# EAGLE library part MAX14840 (library graftel-internal-ic)
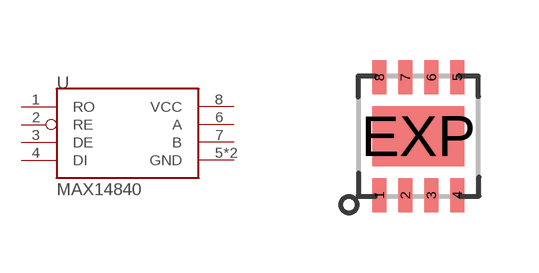
[diagram p29: symbol with the pads of TDFN-8; footprint TDFN-8]

Designator prefix U

## MAX14840  [TDFN-8]
1  RO
2  RE
3  DE
4  DI
5  GND
6  A
7  B
8  VCC
EXP  GND

## Footprint TDFN-8 (pad centres in mm)
smd 0.35 x 0.85: 1 -0.975,-1.475; 2 -0.325,-1.475; 3 0.325,-1.475; 4 0.975,-1.475; 5 0.975,1.475; 6 0.325,1.475; 7 -0.325,1.475; 8 -0.975,1.475
smd 2.3 x 1.5: EXP 0,0